# EAGLE library part 43814-6621 (library jesse)
Molex dual RJ11 jacks
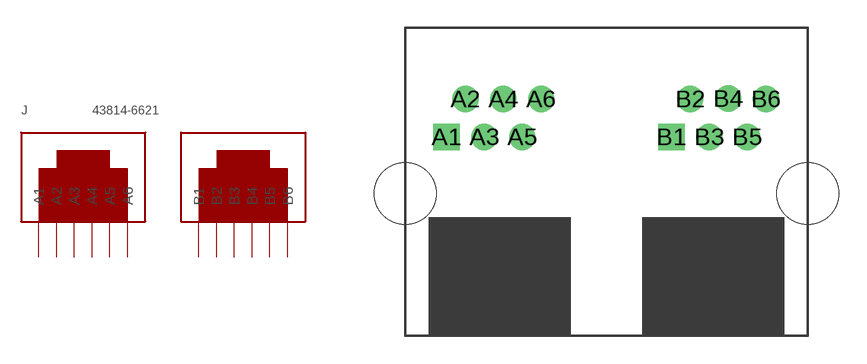
[diagram p9: symbol with the pads of 43814-6621; footprint 43814-6621]

Designator prefix J

## 43814-6621  [43814-6621]
A1  A1
A2  A2
A3  A3
A4  A4
A5  A5
A6  A6
B1  B1
B2  B2
B3  B3
B4  B4
B5  B5
B6  B6

## Footprint 43814-6621 (pad centres in mm)
Dual port RJ11 through hole jack
drill 0.9 square: A1 2.21,3.048; B1 14.275,3.048
drill 0.9: A2 3.226,5.08; A3 4.242,3.048; A4 5.258,5.08; A5 6.274,3.048; A6 7.29,5.08; B2 15.291,5.08; B3 16.307,3.048; B4 17.323,5.105; B5 18.339,3.048; B6 19.355,5.08
hole 3.302 at 0,0
hole 3.302 at 21.59,0